# Altium schematic symbol library AG.Mechanical.SchLib: 2 symbols
Pins are listed as number, name and electrical type; pins without a type are passive.

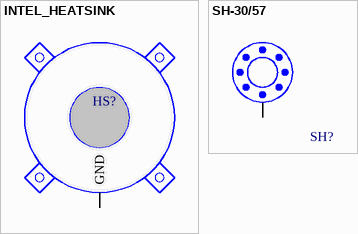
[diagram p0: symbols INTEL_HEATSINK to SH-30/57]

## INTEL_HEATSINK
designator HS?
Heatsink Intel Socket LGA1150
footprint HEATSINK_INTEL_LGA1150 (Heatsink for Intel Socket LGA1150)
footprint HEATSINK_INTEL_LGA1150_MOD (Heatsink for Intel Socket LGA1150 (Modified))
pins: 1 GND

## SH-30/57
designator SH?  (value not drawn)
Screw Hole D3.0/5.7 T/B
footprint SH\D3.0\S5.7 (Screw Hole D3.0/5.7 T/B)
pins: 1